# EAGLE library part ATTINY416 (library Attiny416)
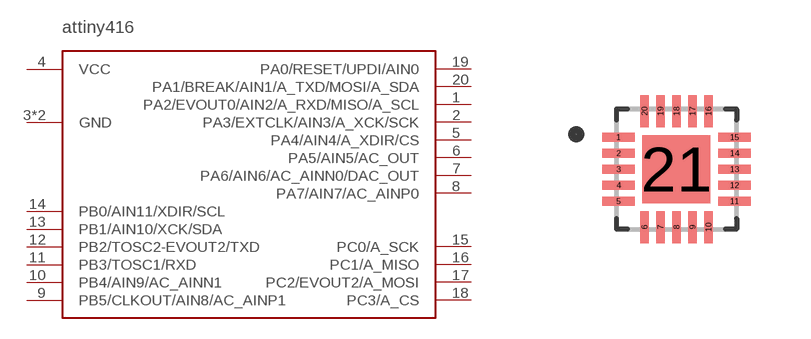
[diagram p0: symbol with the pads of QFN40P300X300X90-21N; footprint QFN40P300X300X90-21N]

Designator prefix -

## ATTINY416  [QFN40P300X300X90-21N]
1  PA2/EVOUT0/AIN2/A_RXD/MISO/A_SCL
2  PA3/EXTCLK/AIN3/A_XCK/SCK
3  GND
4  VCC
5  PA4/AIN4/A_XDIR/CS
6  PA5/AIN5/AC_OUT
7  PA6/AIN6/AC_AINN0/DAC_OUT
8  PA7/AIN7/AC_AINP0
9  PB5/CLKOUT/AIN8/AC_AINP1
10  PB4/AIN9/AC_AINN1
11  PB3/TOSC1/RXD
12  PB2/TOSC2-EVOUT2/TXD
13  PB1/AIN10/XCK/SDA
14  PB0/AIN11/XDIR/SCL
15  PC0/A_SCK
16  PC1/A_MISO
17  PC2/EVOUT2/A_MOSI
18  PC3/A_CS
19  PA0/RESET/UPDI/AIN0
20  PA1/BREAK/AIN1/A_TXD/MOSI/A_SDA
21  GND

## Footprint QFN40P300X300X90-21N (pad centres in mm)
smd 0.81 x 0.22: 1 -1.45,0.8; 2 -1.45,0.4; 3 -1.45,0; 4 -1.45,-0.4; 5 -1.45,-0.8; 11 1.45,-0.8; 12 1.45,-0.4; 13 1.45,0; 14 1.45,0.4; 15 1.45,0.8
smd 0.22 x 0.81: 6 -0.8,-1.45; 7 -0.4,-1.45; 8 0,-1.45; 9 0.4,-1.45; 10 0.8,-1.45; 16 0.8,1.45; 17 0.4,1.45; 18 0,1.45; 19 -0.4,1.45; 20 -0.8,1.45
smd 1.7 x 1.7: 21 0,0